# Altium footprint library DIODE_SMINI2-F5-B.PcbLib: 1 footprints
Each footprint in its own frame and in the unit in brackets; x right, y up, seen from the top. Pads: shape width x height; smd on the part's side, far side on the other; paste and mask are expansions set on the pad; w line width, h text height; cw(c..) or ccw(c..) is an arc to the next point about the centre after c.
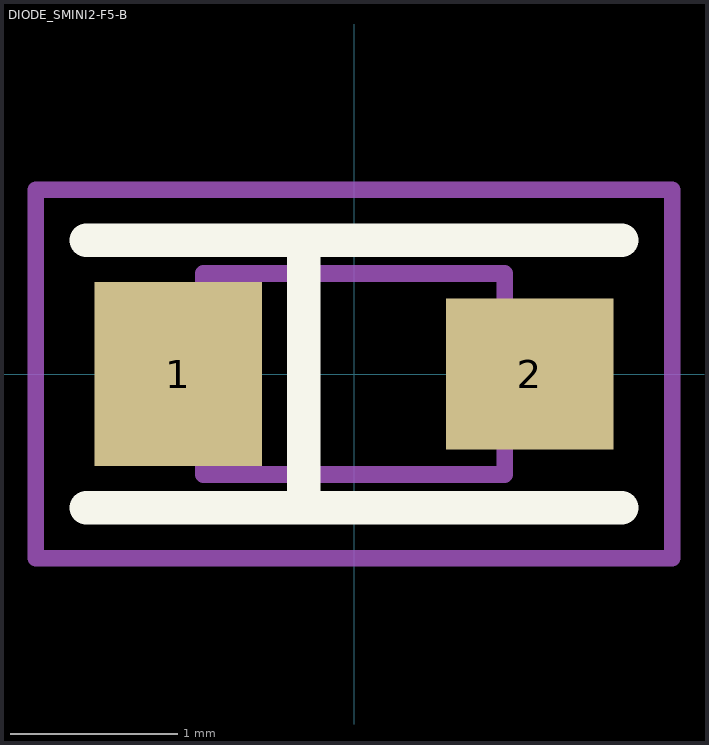
[diagram p0: the footprint, top view; thin cyan lines are the x and y axes]

## DIODE_SMINI2-F5-B [mm]
pads (2):
  rect 1x1.1 smd: 1(-1.05,0)
  rect 1x0.9 smd: 2(1.05,0)
Top Overlay:
  lines w0.2: -1.6,-0.8 1.6,-0.8 ; -1.6,0.8 1.6,0.8 ; -0.3,-0.8 -0.3,0.8
Mechanical 13:
  lines w0.1: -0.9,-0.6 0.9,-0.6 0.9,0.6 -0.9,0.6 -0.9,-0.6
Mechanical 15:
  lines w0.1: -1.9,-1.1 -1.9,1.1 1.9,1.1 1.9,-1.1 -1.9,-1.1
3D body: height 0.71, standoff 0, extent -1.25,-0.63 1.25,0.62